# Altium schematic symbol library Sch_Transistors.SchLib: 4 symbols
Pins are listed as number, name and electrical type; pins without a type are passive.

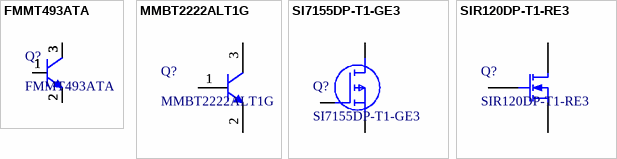
[diagram p0: symbols FMMT493ATA to SIR120DP-T1-RE3]

## FMMT493ATA
designator Q?
Transistor BJT PNP; Manufacturer_Name: Diodes Inc.; Datasheet Link: https://datasheet.datasheetarchive.com/originals/distributors/Datasheets_SAMA/813f9dcbae48594177f25ecf9038d058.pdf; Height: 1.1mm; Manufacturer_Part_Number: FMMT493ATA; Mouser Part Number: 522-FMMT493ATA; Mouser Price/Stock: https://www.mouser.co.uk/ProductDetail/Diodes-Incorporated/FMMT493ATA?qs=GBLSl2AkiruoD9OMdIH%252BaQ%3D%3D; Arrow Part Number: FMMT493ATA; Arrow Price/Stock: https://www.arrow.com/en/products/fmmt493ata/diodes-incorporated
footprint SOT95P230X110-3N
pins: 1 B, 1 B, 1 B, 1 B, 1 B, 1 B, 1 B, 1 B, 1 B, 1 B, 1 B, 1 B, 1 B, 1 B, 1 B, 1 B, 2 E, 2 E, 2 E, 2 E, 2 E, 2 E, 2 E, 2 E, 2 E, 2 E, 2 E, 2 E, 2 E, 2 E, 2 E, 2 E, 3 C, 3 C, 3 C, 3 C, 3 C, 3 C, 3 C, 3 C, 3 C, 3 C, 3 C, 3 C, 3 C, 3 C, 3 C, 3 C

## MMBT2222ALT1G
designator Q?
NPN transistor; Manufacturer_Name: ON Semiconductor; Datasheet Link: http://www.onsemi.com/pub/Collateral/MMBT2222LT1-D.PDF; Height: 1.11mm; Manufacturer_Part_Number: MMBT2222ALT1G; Mouser Part Number: 863-MMBT2222ALT1G; Mouser Price/Stock: https://www.mouser.co.uk/ProductDetail/onsemi/MMBT2222ALT1G?qs=HVbQlW5zcXWwnD7Jokybqg%3D%3D; Arrow Part Number: MMBT2222ALT1G; Arrow Price/Stock: https://www.arrow.com/en/products/mmbt2222alt1g/on-semiconductor
footprint SOT96P237X111-3N
pins: 1 B, 1 B, 2 E, 2 E, 3 C, 3 C

## SI7155DP-T1-GE3
designator Q?
MOSFET (P-Channel)
footprint SI7141DPT1GE3
pins: 1 G, 2 S, 3 S, 4 S, 5 D, 6 D, 7 D, 8 D

## SIR120DP-T1-RE3
designator Q?
MOSFET (N-Channel); Manufacturer_Name: Vishay; Datasheet Link: http://www.vishay.com/docs/79731/sir120dp.pdf; Manufacturer_Part_Number: SIR120DP-T1-RE3; Mouser Part Number: 78-SIR120DP-T1-RE3; Mouser Price/Stock: https://www.mouser.co.uk/ProductDetail/Vishay-Semiconductors/SIR120DP-T1-RE3?qs=UkDUCjYnTB3xEXzKpvDZuA%3D%3D; Arrow Part Number: SIR120DP-T1-RE3; Arrow Price/Stock: https://www.arrow.com/en/products/sir120dp-t1-re3/vishay
footprint SI7141DPT1GE3
pins: 1 G, 1 G, 2 S, 2 S, 3 S, 3 S, 4 S, 4 S, 5 D, 5 D, 6 D, 6 D, 7 D, 7 D, 8 D, 8 D